# EAGLE library part ATMEGA64*QFP (library IC_Embedded)
8-bit Atmel Microcontroller with 64K Bytes In-System Programmable Flash ATmega64 Datasheet <http://ww1.microchip.com/downloads/en/DeviceDoc/Atmel-2490-8-bit-AVR-Microcontroller-ATmega64-L_datasheet.pdf> ATmega64A Datasheet <http://ww1.microchip.com/downloads/en/DeviceDoc/Atmel-8160-8-bit-AVR-Microcontroller-ATmega64A-datasheet.pdf>
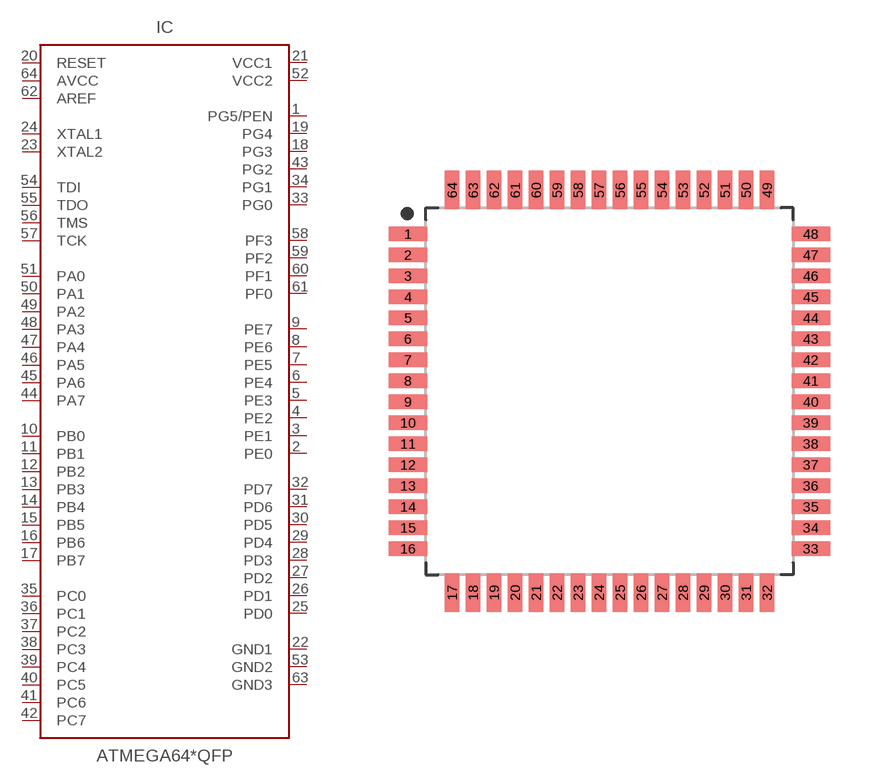
[diagram p12: symbol with the pads of QFP80P1600X1600X120-64N; footprint QFP80P1600X1600X120-64N]

Designator prefix IC

## ATMEGA64-16AUR_QFP64 (CATEGORY: IC_Embedded; DESCRIPTION: IC MCU 8BIT 64KB FLASH 64TQFP; MANUFACTURER: Microchip Technology; MPN: ATMEGA64-16AUR; OPERATING_TEMP: -40°C to 85°C; PART_STATUS: Active; SERIES: AVR® ATmega; SPEED: 16MHz; SUB-CATEGORY: Microcontroller; VALUE: ATMEGA64), ATMEGA64-16AU_QFP64 (CATEGORY: IC_Embedded; DESCRIPTION: IC MCU 8BIT 64KB FLASH 64TQFP; MANUFACTURER: Microchip Technology; MPN: ATMEGA64-16AU; OPERATING_TEMP: -40°C to 85°C; PART_STATUS: Active; SERIES: AVR® ATmega; SPEED: 16MHz; SUB-CATEGORY: Microcontroller; VALUE: ATMEGA64), ATMEGA64A-ANR_QFP64 (CATEGORY: IC_Embedded; DESCRIPTION: IC MCU 8BIT 64KB FLASH 64TQFP; MANUFACTURER: Microchip Technology; MPN: ATMEGA64A-ANR; OPERATING_TEMP: -40°C to 105°C; PART_STATUS: Active; SERIES: AVR® ATmega; SPEED: 16MHz; SUB-CATEGORY: Microcontroller; VALUE: ATMEGA64), ATMEGA64A-AN_QFP64 (CATEGORY: IC_Embedded; DESCRIPTION: IC MCU 8BIT 64KB FLASH 64TQFP; MANUFACTURER: Microchip Technology; MPN: ATMEGA64A-AN; OPERATING_TEMP: -40°C to 105°C; PART_STATUS: Active; SERIES: AVR® ATmega; SPEED: 16MHz; SUB-CATEGORY: Microcontroller; VALUE: ATMEGA64), ATMEGA64A-AUR_QFP64 (CATEGORY: IC_Embedded; DESCRIPTION: IC MCU 8BIT 64KB FLASH 64TQFP; MANUFACTURER: Microchip Technology; MPN: ATMEGA64A-AUR; OPERATING_TEMP: -40°C to 85°C; PART_STATUS: Active; SERIES: AVR® ATmega; SPEED: 16MHz; SUB-CATEGORY: Microcontroller; VALUE: ATMEGA64), ATMEGA64A-AU_QFP64 (CATEGORY: IC_Embedded; DESCRIPTION: IC MCU 8BIT 64KB FLASH 64TQFP; MANUFACTURER: Microchip Technology; MPN: ATMEGA64A-AU; OPERATING_TEMP: -40°C to 85°C; PART_STATUS: Active; SERIES: AVR® ATmega; SPEED: 16MHz; SUB-CATEGORY: Microcontroller; VALUE: ATMEGA64), ATMEGA64L-8AQR_QFP64 (CATEGORY: IC_Embedded; DESCRIPTION: IC MCU 8BIT 64KB FLASH 64TQFP; MANUFACTURER: Microchip Technology; MPN: ATMEGA64L-8AQR; OPERATING_TEMP: -40°C to 105°C; PART_STATUS: Active; SERIES: AVR® ATmega; SPEED: 8MHz; SUB-CATEGORY: Microcontroller; VALUE: ATMEGA64), ATMEGA64L-8AQ_QFP64 (CATEGORY: IC_Embedded; DESCRIPTION: IC MCU 8BIT 64KB FLASH 64TQFP; MANUFACTURER: Microchip Technology; MPN: ATMEGA64L-8AQ; OPERATING_TEMP: -40°C to 105°C; PART_STATUS: Active; SERIES: AVR® ATmega; SPEED: 8MHz; SUB-CATEGORY: Microcontroller; VALUE: ATMEGA64), ATMEGA64L-8AUR_QFP64 (CATEGORY: IC_Embedded; DESCRIPTION: IC MCU 8BIT 64KB FLASH 64TQFP; MANUFACTURER: Microchip Technology; MPN: ATMEGA64L-8AUR; OPERATING_TEMP: -40°C to 85°C; PART_STATUS: Active; SERIES: AVR® ATmega; SPEED: 8MHz; SUB-CATEGORY: Microcontroller; VALUE: ATMEGA64), ATMEGA64L-8AU_QFP64 (CATEGORY: IC_Embedded; DESCRIPTION: IC MCU 8BIT 64KB FLASH 64TQFP; MANUFACTURER: Microchip Technology; MPN: ATMEGA64L-8AU; OPERATING_TEMP: -40°C to 85°C; PART_STATUS: Active; SERIES: AVR® ATmega; SPEED: 8MHz; SUB-CATEGORY: Microcontroller; VALUE: ATMEGA64)  [QFP80P1600X1600X120-64N]
1  PG5/PEN  in
2  PE0
3  PE1
4  PE2
5  PE3
6  PE4
7  PE5
8  PE6
9  PE7
10  PB0
11  PB1
12  PB2
13  PB3
14  PB4
15  PB5
16  PB6
17  PB7
18  PG3
19  PG4
20  RESET  in
21  VCC1  pwr
22  GND1  pwr
23  XTAL2  pas
24  XTAL1  pas
25  PD0
26  PD1
27  PD2
28  PD3
29  PD4
30  PD5
31  PD6
32  PD7
33  PG0
34  PG1
35  PC0
36  PC1
37  PC2
38  PC3
39  PC4
40  PC5
41  PC6
42  PC7
43  PG2
44  PA7
45  PA6
46  PA5
47  PA4
48  PA3
49  PA2
50  PA1
51  PA0
52  VCC2  pwr
53  GND2  pwr
54  TDI  in
55  TDO  out
56  TMS  in
57  TCK  in
58  PF3
59  PF2
60  PF1
61  PF0
62  AREF  pas
63  GND3  pwr
64  AVCC  pwr

## Footprint QFP80P1600X1600X120-64N (pad centres in mm)
64-QFP, 0.80 mm pitch, 16.00 mm span, 14.00 X 14.00 X 1.20 mm body 64-pin QFP package with 0.80 mm pitch, 16.00 mm lead span1 X 16.00 mm lead span2 with body size 14.00 X 14.00 X 1.20 mm
smd 1.469 x 0.547: 1 -7.671,6; 2 -7.671,5.2; 3 -7.671,4.4; 4 -7.671,3.6; 5 -7.671,2.8; 6 -7.671,2; 7 -7.671,1.2; 8 -7.671,0.4; 9 -7.671,-0.4; 10 -7.671,-1.2; 11 -7.671,-2; 12 -7.671,-2.8; 13 -7.671,-3.6; 14 -7.671,-4.4; 15 -7.671,-5.2; 16 -7.671,-6; 33 7.671,-6; 34 7.671,-5.2; 35 7.671,-4.4; 36 7.671,-3.6; 37 7.671,-2.8; 38 7.671,-2; 39 7.671,-1.2; 40 7.671,-0.4; 41 7.671,0.4; 42 7.671,1.2; 43 7.671,2; 44 7.671,2.8; 45 7.671,3.6; 46 7.671,4.4; 47 7.671,5.2; 48 7.671,6
smd 0.547 x 1.469: 17 -6,-7.671; 18 -5.2,-7.671; 19 -4.4,-7.671; 20 -3.6,-7.671; 21 -2.8,-7.671; 22 -2,-7.671; 23 -1.2,-7.671; 24 -0.4,-7.671; 25 0.4,-7.671; 26 1.2,-7.671; 27 2,-7.671; 28 2.8,-7.671; 29 3.6,-7.671; 30 4.4,-7.671; 31 5.2,-7.671; 32 6,-7.671; 49 6,7.671; 50 5.2,7.671; 51 4.4,7.671; 52 3.6,7.671; 53 2.8,7.671; 54 2,7.671; 55 1.2,7.671; 56 0.4,7.671; 57 -0.4,7.671; 58 -1.2,7.671; 59 -2,7.671; 60 -2.8,7.671; 61 -3.6,7.671; 62 -4.4,7.671; 63 -5.2,7.671; 64 -6,7.671